# EAGLE library part XR-1010P (library exar)
Second order switched capacitor FILTER
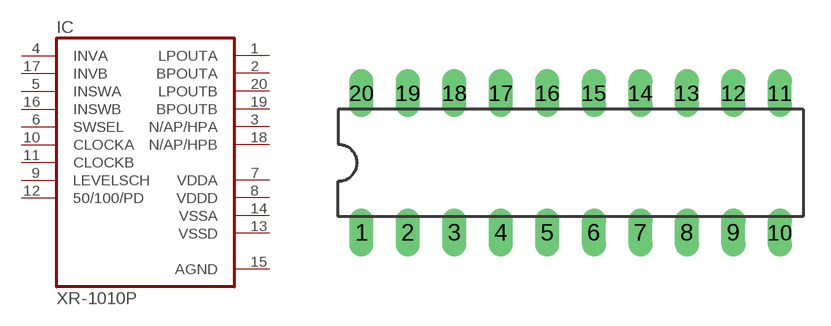
[diagram p94: symbol with the pads of DIL20; footprint DIL20]

Designator prefix IC

## XR-1010P (OC_FARNELL: unknown; OC_NEWARK: unknown)  [DIL20]
1  LPOUTA  out
2  BPOUTA  out
3  N/AP/HPA  out
4  INVA  in
5  INSWA  in
6  SWSEL  in
7  VDDA  pwr
8  VDDD  pwr
9  LEVELSCH  in
10  CLOCKA  in
11  CLOCKB  in
12  50/100/PD  in
13  VSSD  pwr
14  VSSA  pwr
15  AGND  pwr
16  INSWB  in
17  INVB  in
18  N/AP/HPB  out
19  BPOUTB  out
20  LPOUTB  out

## Footprint DIL20 (pad centres in mm)
Dual In Line Package
drill 0.813 long: 1 -11.43,-3.81; 2 -8.89,-3.81; 3 -6.35,-3.81; 4 -3.81,-3.81; 5 -1.27,-3.81; 6 1.27,-3.81; 7 3.81,-3.81; 8 6.35,-3.81; 9 8.89,-3.81; 10 11.43,-3.81; 11 11.43,3.81; 12 8.89,3.81; 13 6.35,3.81; 14 3.81,3.81; 15 1.27,3.81; 16 -1.27,3.81; 17 -3.81,3.81; 18 -6.35,3.81; 19 -8.89,3.81; 20 -11.43,3.81